# Altium footprint library PCB - SPECIALISEDSENSOR - HONEYWELL HSCMAND.PCBLIB: 1 footprints
Each footprint in its own frame and in the unit in brackets; x right, y up, seen from the top. Pads: shape width x height; smd on the part's side, far side on the other; paste and mask are expansions set on the pad; w line width, h text height; cw(c..) or ccw(c..) is an arc to the next point about the centre after c.
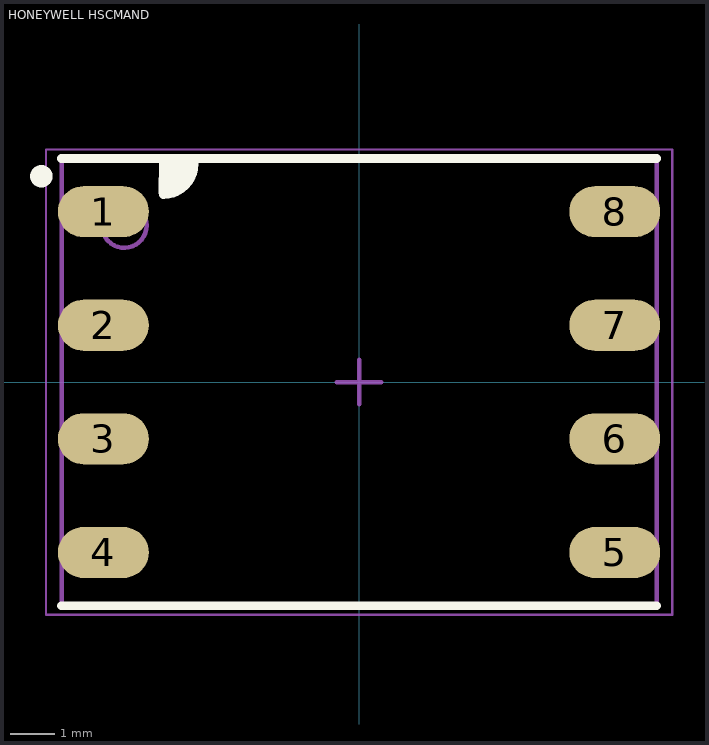
[diagram p0: the footprint, top view; thin cyan lines are the x and y axes]

## HONEYWELL HSCMAND [mil] "SMT AN, 8-Leads, Body 13.3x10.0mm, Pitch 2.54mm, IPC Medium Density"
height 541.34
pads (8):
  oval 80x45 smd paste-7.87: 1(-225.04,150) 2(-225.04,50) 3(-225.04,-50) 4(-225.04,-150) 5(225.04,-150) 6(225.04,-50) 7(225.04,50) 8(225.04,150)
Top Overlay:
  circle w9.84: c-279.53,181.1 r4.92
  region: -145.28,194.88 -176.01,194.88 -176.18,165.57 -164.15,165.57 -145.28,184.45
  lines w7.87: -261.81,-196.85 261.81,-196.85 ; -261.81,196.85 261.81,196.85 ; -172.24,164.96 ccw(c-172.24,191.93) -145.28,191.93
Mechanical 13:
  circle w3.94: c-206.69,137.8 r19.68
  lines w3.94: -261.81,-196.85 -261.81,196.85 261.81,196.85 261.81,-196.85 -261.81,-196.85
Mechanical 15:
  lines w1.97: -275.59,-204.72 275.59,-204.72 275.59,204.72 -275.59,204.72 -275.59,-204.72
  lines w3.94: -19.69,0 19.68,0 ; 0,-19.68 0,19.68
3D body "Honeywell - HSCMAND.step": height 575.98, standoff 0.1, extent -259.5,-196.85 259.49,196.85